# Altium schematic symbol library ADXL314WBCPZ-RL.SchLib: 1 symbol
Pins are listed as number, name and electrical type; pins without a type are passive.

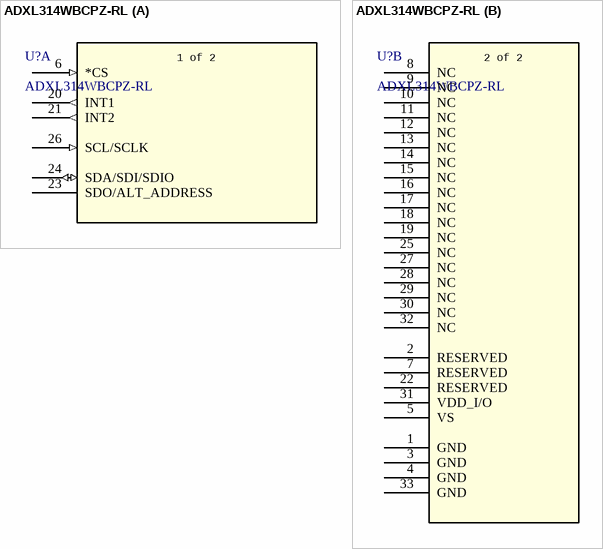
[diagram p0: symbol ADXL314WBCPZ-RL]

## ADXL314WBCPZ-RL
designator U?
Â±200 g Range, 3-Axis Digital Accelerometer; Manufacturer_Name: Analog Devices Inc; Copyright: Copyright (C) 2025 Ultra Librarian. All rights reserved.; Manufacturer_Part_Number: ADXL314WBCPZ-RL; RefDes: RefDes; Type: Type
footprint LFCSP32_CP-32-17_ADI
part A pins: 6 *CS (in), 20 INT1 (out), 21 INT2 (out), 23 SDO/ALT_ADDRESS, 24 SDA/SDI/SDIO (io), 26 SCL/SCLK (in)
part B pins: 1 GND (power), 2 RESERVED, 3 GND (power), 4 GND (power), 5 VS (power), 7 RESERVED, 8 NC, 9 NC, 10 NC, 11 NC, 12 NC, 13 NC, 14 NC, 15 NC, 16 NC, 17 NC, 18 NC, 19 NC, 22 RESERVED, 25 NC, 27 NC, 28 NC, 29 NC, 30 NC, 31 VDD_I/O (power), 32 NC, 33 GND (power)
part A text: 1 of 2
part B text: 2 of 2